# Altium footprint library B3SL-1002P.PcbLib: 1 footprints
Each footprint in its own frame and in the unit in brackets; x right, y up, seen from the top. Pads: shape width x height; smd on the part's side, far side on the other; paste and mask are expansions set on the pad; w line width, h text height; cw(c..) or ccw(c..) is an arc to the next point about the centre after c.
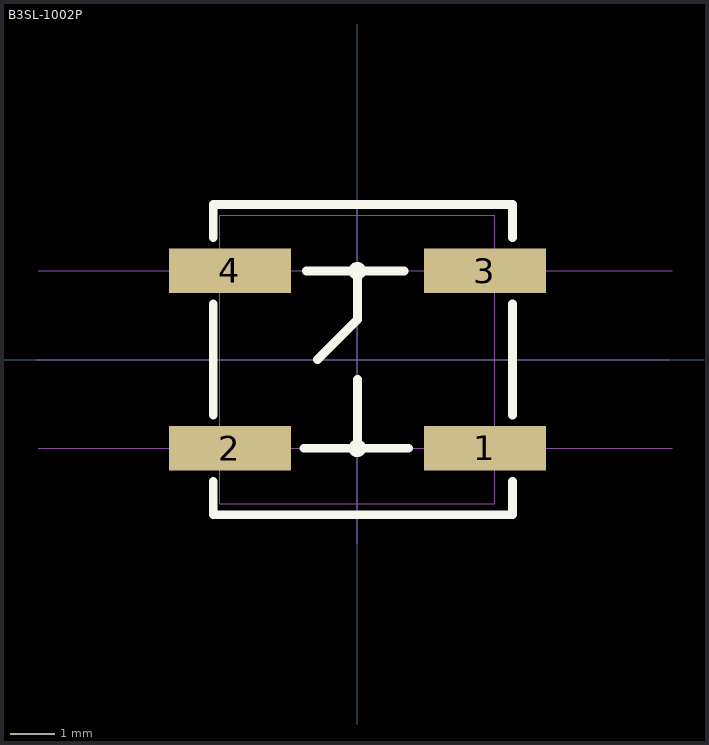
[diagram p0: the footprint, top view; thin cyan lines are the x and y axes]

## B3SL-1002P [mm] "Surface mounted 6x6mm tactile switch"
height 3.4
pads (4):
  rect 2.75x1 smd: 1(2.875,-2) 2(-2.875,-2) 3(2.875,2) 4(-2.875,2)
Top Overlay:
  circle w0.1: c0,-2 r0.15
  circle w0.1: c0,2 r0.15
  lines w0.2: -3.25,-2.75 -3.25,-3.5 3.5,-3.5 3.5,-2.75 ; -3.25,-1.25 -3.25,1.25 ; -3.25,2.75 -3.25,3.5 3.25,3.5 3.5,3.5 3.5,2.75 ; -1.2,-2 1.15,-2 ; -1.15,2 1.05,2 ; -0.9,0 0,0.9 0,2 ; 0,-2 0,-0.45 ; 3.5,-1.25 3.5,1.25
Mechanical 9:
  lines w0.01: -7.25,0 7.05,0 ; -7.2,-2 7.1,-2 ; -7.2,2 7.1,2 ; 0,-4.15 0,3.5 ; -3.1,-3.25 3.1,-3.25 3.1,3.25 -3.1,3.25 -3.1,-3.25
3D body: height 1.2, standoff 0, extent 3.1,1.6 3.25,2.4
3D body: height 1.2, standoff 0, extent 3.105,-2.4 3.255,-1.6
3D body: height 1.2, standoff 0, extent -3.245,-2.4 -3.095,-1.6
3D body: height 1.2, standoff 0, extent -3.25,1.6 -3.1,2.4
3D body: height 3.4, standoff 2.5, extent -1.25,-1.25 1.24,1.245
3D body: height 2.5, standoff 0, extent -3.1,-3.25 3.1,3.25